# Altium schematic symbol library ESP32-S3-WROOM-1-N16R8.SchLib: 28 symbols
Pins are listed as number, name and electrical type; pins without a type are passive.

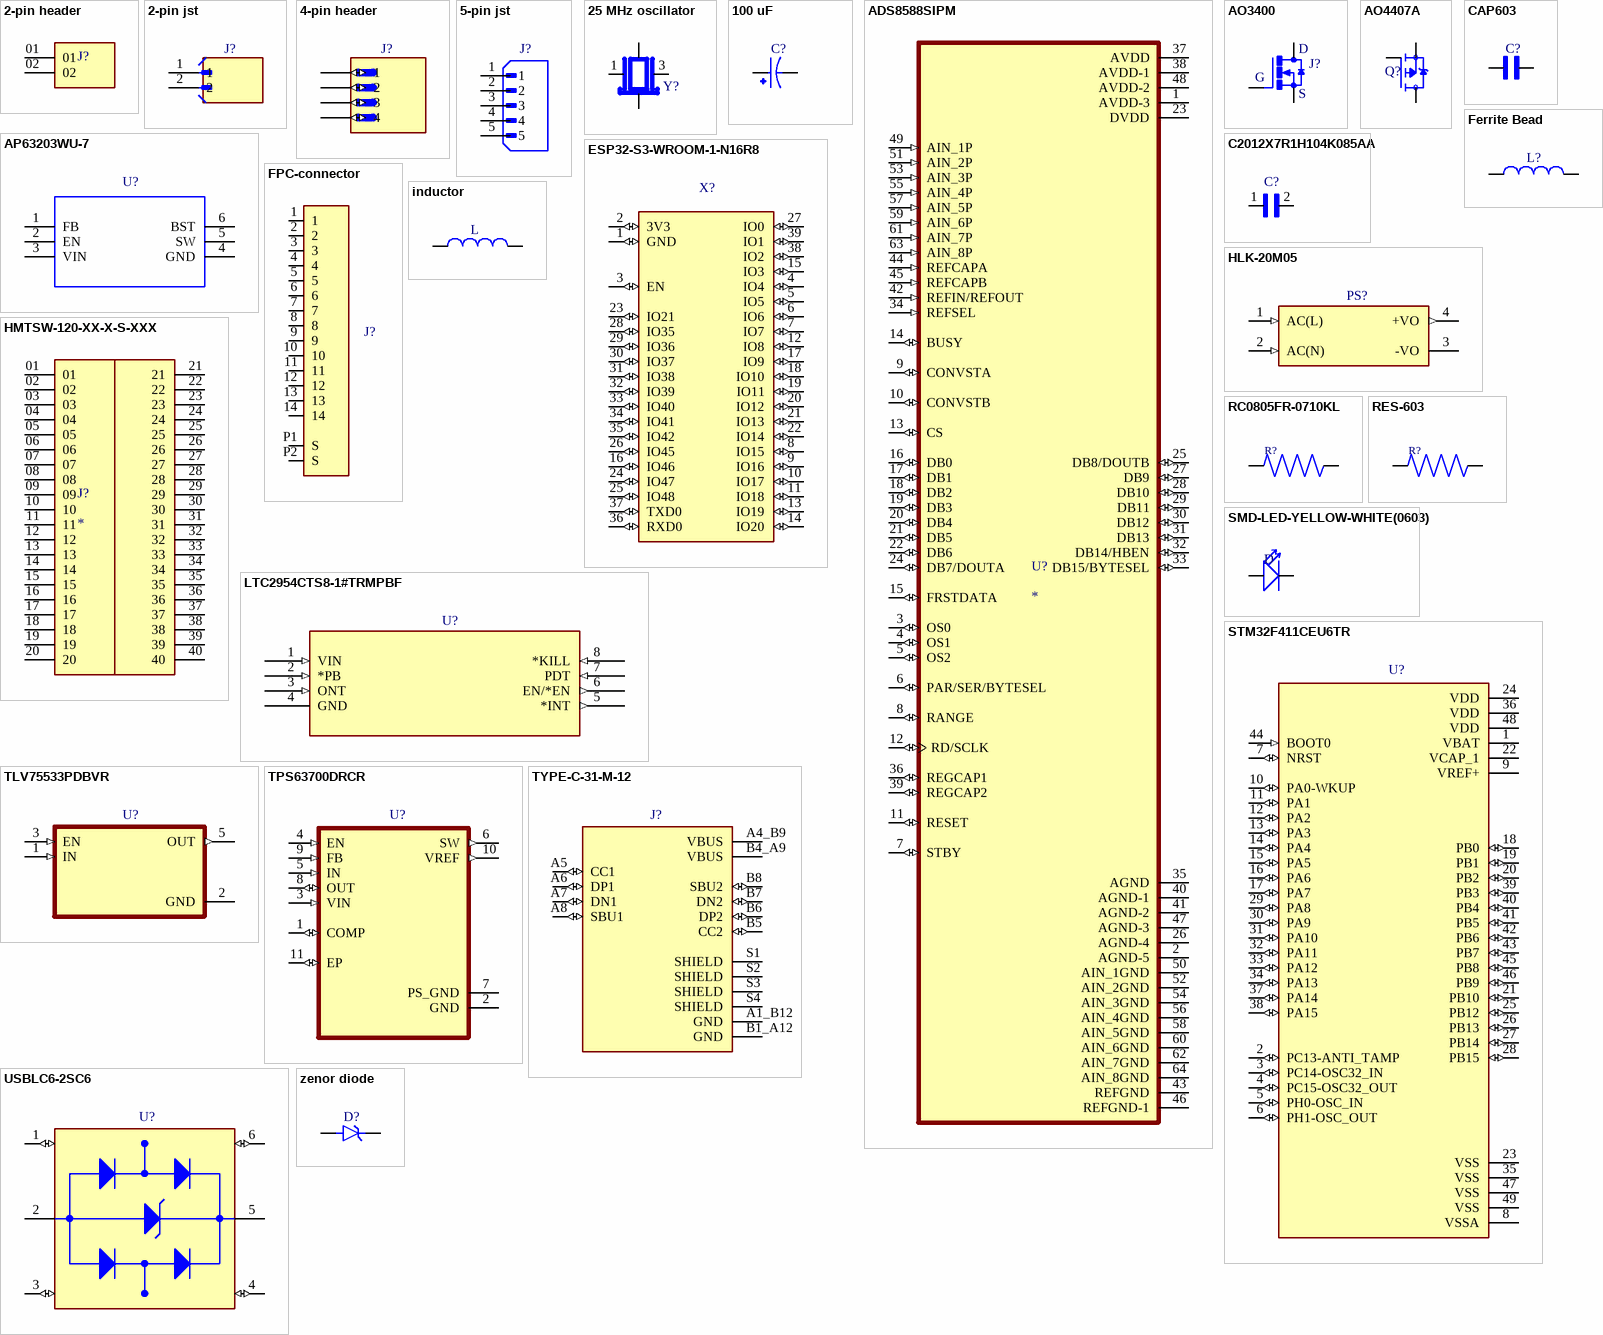
[diagram p0: symbols 2-pin header to zenor diode]

## 2-pin header
designator J?  (value not drawn)
Variable Height PCB Header Strips, 0.100 pitch; MF: SAMTEC; MP: MTSW-102-11-T-S-500; SnapEDA_Link: https://www.snapeda.com/parts/MTSW-102-11-T-S-500/Samtec/view-part/?ref=snap; Package: None; Value: *; Check_prices: https://www.snapeda.com/parts/MTSW-102-11-T-S-500/Samtec/view-part/?ref=eda
footprint 2-pin header
pins: 01, 02

## 2-pin jst
designator J?  (value not drawn)
Connector Header Through Hole 2 position 0.079 (2.00mm); MF: JST Sales America Inc.; MP: B2B-PH-K-S; SnapEDA_Link: https://www.snapeda.com/parts/B2B-PH-K-S/JST/view-part/?ref=snap; Package: None; Value: *; Check_prices: https://www.snapeda.com/parts/B2B-PH-K-S/JST/view-part/?ref=eda
footprint 2-pin jst
pins: 1, 2

## 4-pin header
designator J?  (value not drawn)
BergStikÂ®, Board to Board connector, Unshrouded Header, Through Hole, Single Row, 4 Positions, 2.54 mm Pitch, Vertical, 5.84 mm (0.23 in.) Mating, 2.41 mm (0.095 in.) Tail; MF: FCI; MP: 68000-104HLF; SnapEDA_Link: https://www.snapeda.com/parts/68000-104HLF/Amphenol+FCI/view-part/?ref=snap; Package: None; Value: *; Check_prices: https://www.snapeda.com/parts/68000-104HLF/Amphenol+FCI/view-part/?ref=eda
footprint 4-pin header
pins: 1 (io), 2 (io), 3 (io), 4 (io)

## 5-pin jst
designator J?  (value not drawn)
Connector Header Through Hole 5 position 0.098 (2.50mm); MF: JST Sales America Inc.; MP: B5B-XH-A(LF)(SN); SnapEDA_Link: https://www.snapeda.com/parts/B5B-XH-A(LF)(SN)/JST+Sales+America+Inc./view-part/?ref=snap; Package: None; Value: *; Check_prices: https://www.snapeda.com/parts/B5B-XH-A(LF)(SN)/JST+Sales+America+Inc./view-part/?ref=eda
footprint 5-pin jst
pins: 1, 2, 3, 4, 5

## 25 MHz oscillator
designator Y?  (value not drawn)
25 MHz 10ppm Crystal 18pF 30 Ohms 4-SMD, No Lead (3.20mm x 2.50mm); MF: Raltron Electronics; MP: RH100-25.000-18-F-1015-TR-NS2; SnapEDA_Link: https://www.snapeda.com/parts/RH100-25.000-18-F-1015-TR-NS2/Raltron+Electronics/view-part/?ref=snap; Package: None; Value: *; Check_prices: https://www.snapeda.com/parts/RH100-25.000-18-F-1015-TR-NS2/Raltron+Electronics/view-part/?ref=eda
footprint 25 MHz oscillator
pins: 1, 2 GND (power), 3, 4 GND (power)

## 100 uF
designator C?  (value not drawn)
Capacitor, Polymer Aluminum, Radial, 12mOhm, 100 CAP, 16V, SVPG, Surface Mount | Panasonic Electronic Components 16SVPG100M; SnapEDA_Link: https://www.snapeda.com/parts/16SVPG100M/Panasonic/view-part/?ref=snap; Package: None; Value: *; MF: Panasonic; MP: 16SVPG100M; Check_prices: https://www.snapeda.com/parts/16SVPG100M/Panasonic/view-part/?ref=eda
footprint 100 uF
pins: 1, 2

## ADS8588SIPM
designator U?
16-Bit High-Speed 8-Channel Simultaneous-Sampling ADC With Bipolar Inputs on a Single Supply 64-LQFP -40 to 125; MF: Texas Instruments; MP: ADS8588SIPM; Value: *; SnapEDA_Link: https://www.snapeda.com/parts/ADS8588SIPM/Texas+Instruments/view-part/?ref=snap; Purchase-URL: https://pricing.snapeda.com/search/part/ADS8588SIPM/?ref=eda; Availability: In Stock; Price: None; Package: LQFP-64 Texas Instruments; Check_prices: https://www.snapeda.com/parts/ADS8588SIPM/Texas+Instruments/view-part/?ref=eda
footprint ADS8588SIPM
pins: 1 AVDD-3 (power), 2 AGND-5 (power), 3 OS0 (io), 4 OS1 (io), 5 OS2 (io), 6 PAR/SER/BYTESEL (io), 7 STBY (io), 8 RANGE (io), 9 CONVSTA (io), 10 CONVSTB (io), 11 RESET (io), 12 RD/SCLK (io), 13 CS (io), 14 BUSY (io), 15 FRSTDATA (io), 16 DB0 (io), 17 DB1 (io), 18 DB2 (io), 19 DB3 (io), 20 DB4 (io), 21 DB5 (io), 22 DB6 (io), 23 DVDD (power), 24 DB7/DOUTA (io), 25 DB8/DOUTB (io), 26 AGND-4 (power), 27 DB9 (io), 28 DB10 (io), 29 DB11 (io), 30 DB12 (io), 31 DB13 (io), 32 DB14/HBEN (io), 33 DB15/BYTESEL (io), 34 REFSEL (in), 35 AGND (power), 36 REGCAP1 (io), 37 AVDD (power), 38 AVDD-1 (power), 39 REGCAP2 (io), 40 AGND-1 (power), 41 AGND-2 (power), 42 REFIN/REFOUT (in), 43 REFGND (power), 44 REFCAPA (in), 45 REFCAPB (in), 46 REFGND-1 (power), 47 AGND-3 (power), 48 AVDD-2 (power), 49 AIN_1P (in), 50 AIN_1GND (power), 51 AIN_2P (in), 52 AIN_2GND (power), 53 AIN_3P (in), 54 AIN_3GND (power), 55 AIN_4P (in), 56 AIN_4GND (power), 57 AIN_5P (in), 58 AIN_5GND (power), 59 AIN_6P (in), 60 AIN_6GND (power), 61 AIN_7P (in), 62 AIN_7GND (power), 63 AIN_8P (in), 64 AIN_8GND (power)

## AO3400
designator J?  (value not drawn)
N-Channel 30 V 5.8A (Ta) 1.4W (Ta) Surface Mount SOT-23-3; MF: Alpha &; MP: AO3400; SnapEDA_Link: https://www.snapeda.com/parts/AO3400/Alpha/view-part/?ref=snap; Package: SOT-23-3 Alpha &amp; Omega Semiconductor; Check_prices: https://www.snapeda.com/parts/AO3400/Alpha/view-part/?ref=eda; Value: *
footprint AO3400
pins: 1 G, 2 S, 3 D

## AO4407A
designator Q?  (value not drawn)
P-Channel 30 V 12A (Ta) 3.1W (Ta) Surface Mount 8-SOIC; MF: Alpha &; MP: AO4407A; SnapEDA_Link: https://www.snapeda.com/parts/AO4407A/Alpha/view-part/?ref=snap; Package: SOIC-8 Alpha &amp; Omega Semiconductor; Value: *; Check_prices: https://www.snapeda.com/parts/AO4407A/Alpha/view-part/?ref=eda
footprint AO4407A
pins: 1 S, 2 S, 3 S, 4 G, 5 D, 6 D, 7 D, 8 D

## AP63203WU-7
designator U?  (value not drawn)
Buck Switching Regulator IC Positive Fixed 3.3V 1 Output 2A SOT-23-6 Thin, TSOT-23-6; MF: Diodes Zetex; MP: AP63203WU-7; SnapEDA_Link: https://www.snapeda.com/parts/AP63203WU-7/Diodes+Inc./view-part/?ref=snap; Package: SOT-23-6 Diodes Incorporated; Value: *; Check_prices: https://www.snapeda.com/parts/AP63203WU-7/Diodes+Inc./view-part/?ref=eda
footprint AP63203WU-7
pins: 1 FB, 2 EN, 3 VIN, 4 GND, 5 SW, 6 BST

## C2012X7R1H104K085AA
designator C?  (value not drawn)
0.1 ÂµF Â±10% 50V Ceramic Capacitor X7R 0805 (2012 Metric); MP: C2012X7R1H104K085AA; MF: TDK; Purchase-URL: https://pricing.snapeda.com/search/part/C2012X7R1H104K085AA/?ref=eda; Package: 2012 TDK; Value: *; SnapEDA_Link: https://www.snapeda.com/parts/C2012X7R1H104K085AA/TDK/view-part/?ref=snap; Digi-Key_Part_Number: 445-7534-1-ND; Check_prices: https://www.snapeda.com/parts/C2012X7R1H104K085AA/TDK/view-part/?ref=eda
footprint CAPC2012X100N
pins: 1, 2

## CAP603
designator C?  (value not drawn)
0.1 ÂµF Â±5% 10V Ceramic Capacitor X7R 0603 (1608 Metric); MF: Vishay; MP: VJ0603Y104JXQCW1BC; SnapEDA_Link: https://www.snapeda.com/parts/VJ0603Y104JXQCW1BC/Vishay/view-part/?ref=snap; Package: 0603-2 VISHAY; Value: *; Check_prices: https://www.snapeda.com/parts/VJ0603Y104JXQCW1BC/Vishay/view-part/?ref=eda
footprint CAP603
pins: 1, 2

## ESP32-S3-WROOM-1-N16R8
designator X?  (value not drawn)
Bluetooth, WiFi 802.11b/g/n, Bluetooth v5.0 Transceiver Module 2.4GHz PCB Trace Surface Mount; MF: Espressif Systems; MP: ESP32-S3-WROOM-1-N16R8; SnapEDA_Link: https://www.snapeda.com/parts/ESP32-S3-WROOM-1-N16R8/Espressif+Systems/view-part/?ref=snap; Package: NON STANDARD Espressif Systems; Value: *; Check_prices: https://www.snapeda.com/parts/ESP32-S3-WROOM-1-N16R8/Espressif+Systems/view-part/?ref=eda
footprint ESP32S3WROOM1N8R2
pins: 1 GND (io), 2 3V3 (io), 3 EN (io), 4 IO4 (io), 5 IO5 (io), 6 IO6 (io), 7 IO7 (io), 8 IO15 (io), 9 IO16 (io), 10 IO17 (io), 11 IO18 (io), 12 IO8 (io), 13 IO19 (io), 14 IO20 (io), 15 IO3 (io), 16 IO46 (io), 17 IO9 (io), 18 IO10 (io), 19 IO11 (io), 20 IO12 (io), 21 IO13 (io), 22 IO14 (io), 23 IO21 (io), 24 IO47 (io), 25 IO48 (io), 26 IO45 (io), 27 IO0 (io), 28 IO35 (io), 29 IO36 (io), 30 IO37 (io), 31 IO38 (io), 32 IO39 (io), 33 IO40 (io), 34 IO41 (io), 35 IO42 (io), 36 RXD0 (io), 37 TXD0 (io), 38 IO2 (io), 39 IO1 (io), 40 GND (io), 41 GND (io), 42 GND (io), 43 GND (io), 44 GND (io), 45 GND (io), 46 GND (io), 47 GND (io), 48 GND (io), 49 GND (io)

## Ferrite Bead
designator L?  (value not drawn)
Size 0603; Z @ 100 MHz = 1000 â„¦; Zmax = 1100 â„¦ @ 120 MHz; IR = 300 mA; RDC = 0.6 â„¦; MF: Wurth Electronics; MP: 742792664; SnapEDA_Link: https://www.snapeda.com/parts/742792664/Wurth+Electronics/view-part/?ref=snap; Package: 0603 Wurth Elektronik; Value: *; Check_prices: https://www.snapeda.com/parts/742792664/Wurth+Electronics/view-part/?ref=eda
footprint Ferrite Bead
pins: 1, 2

## FPC-connector
designator J?  (value not drawn)
14 Position FPC Connector Contacts, Top 0.020 (0.50mm) Surface Mount, Right Angle; MF: TE Connectivity; MP: 1-1734839-4; SnapEDA_Link: https://www.snapeda.com/parts/1-1734839-4/TE+Connectivity+AMP+Connectors/view-part/?ref=snap; Package: None; Value: *; EU_RoHS_Compliance: Compliant; Check_prices: https://www.snapeda.com/parts/1-1734839-4/TE+Connectivity+AMP+Connectors/view-part/?ref=eda
footprint FPC-connector
pins: 1, 2, 3, 4, 5, 6, 7, 8, 9, 10, 11, 12, 13, 14, P1 S, P2 S

## HLK-20M05
designator PS?  (value not drawn)
20W ultra-small series module power supply; MF: Hi-link; MP: HLK-20M05; Value: *; Package: Non-Standard Hi-link; Check_prices: https://www.snapeda.com/parts/HLK-20M05/Hi-link/view-part/?ref=eda; SnapEDA_Link: https://www.snapeda.com/parts/HLK-20M05/Hi-link/view-part/?ref=snap; Price: None; Availability: Not in stock
footprint HLK-20M05
pins: 1 AC(L) (in), 2 AC(N) (in), 3 -VO (power), 4 +VO (out)

## HMTSW-120-XX-X-S-XXX
designator J?
Connector Header Through Hole 20 position 0.100 (2.54mm); MF: Samtec; MP: HMTSW-120-08-G-S-250; SnapEDA_Link: https://www.snapeda.com/parts/HMTSW-120-08-G-S-250/Samtec/view-part/?ref=snap; Package: None; Value: *; Check_prices: https://www.snapeda.com/parts/HMTSW-120-08-G-S-250/Samtec/view-part/?ref=eda
footprint SAMTEC_HMTSW-120-XX-X-S-XXX
pins: 01, 02, 03, 04, 05, 06, 07, 08, 09, 10, 11, 12, 13, 14, 15, 16, 17, 18, 19, 20, 21, 22, 23, 24, 25, 26, 27, 28, 29, 30, 31, 32, 33, 34, 35, 36, 37, 38, 39, 40

## inductor
designator L  (value not drawn)
Inductor with Inductance: 4.7uH Tol. +/-20%, Package: 0603 _1608_; MF: Murata Electronics; MP: LQM18PN4R7MFRL; SnapEDA_Link: https://www.snapeda.com/parts/LQM18PN4R7MFRL/Murata%20Electronics%20North%20America/view-part/1499515/?ref=snap; Availability: Unavailable; Value: *; Price: None; Package: 1608 Murata
footprint inductor
pins: 1, 2

## LTC2954CTS8-1#TRMPBF
designator U?  (value not drawn)
MF: {'manufacturer': u'Analog Devices Inc.'}; MP: LTC2954CTS8-1#TRMPBF; Package: None; Price: None; Value: *; Availability: Unavailable
footprint LTC2954CTS8-1#TRMPBF
pins: 1 VIN (in), 2 *PB (in), 3 ONT (in), 4 GND (power), 5 *INT (out), 6 EN/*EN (out), 7 PDT (in), 8 *KILL (in)

## RC0805FR-0710KL
designator R?  (value not drawn)
10 kOhms Â±1% 0.125W, 1/8W Chip Resistor 0805 (2012 Metric) Moisture Resistant Thick Film; MF: Yageo; MP: RC0805FR-0710KL; Value: *; SnapEDA_Link: https://www.snapeda.com/parts/RC0805FR-0710KL/Yageo/view-part/?ref=snap; Purchase-URL: https://pricing.snapeda.com/search/part/RC0805FR-0710KL/?ref=eda; Availability: In Stock; Price: None; Package: 2012 Rohm Semiconductor; Check_prices: https://www.snapeda.com/parts/RC0805FR-0710KL/Yageo/view-part/?ref=eda
footprint RESC2012X60N
pins: 1, 2

## RES-603
designator R?  (value not drawn)
MF: Yageo; MP: RC0805FR-0710KL; Value: *; SnapEDA_Link: https://www.snapeda.com/parts/RC0805FR-0710KL/Yageo/view-part/?ref=snap; Purchase-URL: https://pricing.snapeda.com/search/part/RC0805FR-0710KL/?ref=eda; Availability: In Stock; Price: None; Package: 2012 Rohm Semiconductor; Check_prices: https://www.snapeda.com/parts/RC0805FR-0710KL/Yageo/view-part/?ref=eda
footprint CAP603
pins: 1, 2

## SMD-LED-YELLOW-WHITE(0603)
designator D  (value not drawn)
SMD LED Yellow-White; MF: Chengguangxing; MP: ADL-0603W; SnapEDA_Link: https://www.snapeda.com/parts/ADL-0603W/Chengguangxing/view-part/106378/?ref=snap; Availability: Unavailable; Value: *; Price: None; Package: None
footprint LED-0603
pins: NEG, POS

## STM32F411CEU6TR
designator U?  (value not drawn)
ARMÂ® CortexÂ®-M4 series Microcontroller IC 32-Bit Single-Core 100MHz 512KB (512K x 8) FLASH 48-UFQFPN (7x7); MP: STM32F411CEU6TR; MF: STMicroelectronics; Value: *; Package: UFQFN-48 STMicroelectronics; Availability: In Stock; Price: None; SnapEDA_Link: https://www.snapeda.com/parts/STM32F411CEU6TR/STMicroelectronics/view-part/?ref=snap; Check_prices: https://www.snapeda.com/parts/STM32F411CEU6TR/STMicroelectronics/view-part/?ref=eda; Purchase-URL: https://pricing.snapeda.com/search/part/STM32F411CEU6TR/?ref=eda
footprint STM32F411CEU6TR
pins: 1 VBAT, 2 PC13-ANTI_TAMP (io), 3 PC14-OSC32_IN (io), 4 PC15-OSC32_OUT (io), 5 PH0-OSC_IN (io), 6 PH1-OSC_OUT (io), 7 NRST (io), 8 VSSA, 9 VREF+ (power), 10 PA0-WKUP (io), 11 PA1 (io), 12 PA2 (io), 13 PA3 (io), 14 PA4 (io), 15 PA5 (io), 16 PA6 (io), 17 PA7 (io), 18 PB0 (io), 19 PB1 (io), 20 PB2 (io), 21 PB10 (io), 22 VCAP_1 (power), 23 VSS, 24 VDD, 25 PB12 (io), 26 PB13 (io), 27 PB14 (io), 28 PB15 (io), 29 PA8 (io), 30 PA9 (io), 31 PA10 (io), 32 PA11 (io), 33 PA12 (io), 34 PA13 (io), 35 VSS, 36 VDD, 37 PA14 (io), 38 PA15 (io), 39 PB3 (io), 40 PB4 (io), 41 PB5 (io), 42 PB6 (io), 43 PB7 (io), 44 BOOT0 (in), 45 PB8 (io), 46 PB9 (io), 47 VSS, 48 VDD, 49 VSS

## TLV75533PDBVR
designator U?  (value not drawn)
500-mA High-PSRR Low-IQ-Tief-Dropout-Spannungsregler mitablem; MF: Texas Instruments; MP: TLV75533PDBVR; SnapEDA_Link: https://www.snapeda.com/parts/TLV75533PDBVR/Texas+Instruments/view-part/?ref=snap; Package: SOT-23-5 Texas Instruments; Value: *; Check_prices: https://www.snapeda.com/parts/TLV75533PDBVR/Texas+Instruments/view-part/?ref=eda
footprint TLV75533PDBVR
pins: 1 IN (in), 2 GND (power), 3 EN (in), 5 OUT (out)

## TPS63700DRCR
designator U?  (value not drawn)
Adjustable, -15V Output Inverting DC/DC Converter in 3x3 QFN; MF: Texas Instruments; MP: TPS63700DRCR; SnapEDA_Link: https://www.snapeda.com/parts/TPS63700DRCR/Texas+Instruments/view-part/?ref=snap; Package: VSON-10 Texas Instruments; Value: *; Check_prices: https://www.snapeda.com/parts/TPS63700DRCR/Texas+Instruments/view-part/?ref=eda
footprint TPS63700DRCR
pins: 1 COMP (io), 2 GND (power), 3 VIN (in), 4 EN (in), 5 IN (in), 6 SW (out), 7 PS_GND (power), 8 OUT (io), 9 FB (in), 10 VREF (out), 11 EP (io)

## TYPE-C-31-M-12
designator J?  (value not drawn)
USB Connectors 24 Receptacle 1 8.94*7.3mm RoHS; MF: HRO Electronics Co., Ltd.; MP: TYPE-C-31-M-12; SnapEDA_Link: https://www.snapeda.com/parts/TYPE-C-31-M-12/HRO+Electronics+Co.%252C+Ltd./view-part/?ref=snap; Package: Package; Value: *; Check_prices: https://www.snapeda.com/parts/TYPE-C-31-M-12/HRO+Electronics+Co.%252C+Ltd./view-part/?ref=eda
footprint TYPE-C-31-M-12
pins: A1_B12 GND, A4_B9 VBUS (power), A5 CC1 (io), A6 DP1 (io), A7 DN1 (io), A8 SBU1 (io), B1_A12 GND, B4_A9 VBUS (power), B5 CC2 (io), B6 DP2 (io), B7 DN2 (io), B8 SBU2 (io), S1 SHIELD, S2 SHIELD, S3 SHIELD, S4 SHIELD

## USBLC6-2SC6
designator U?  (value not drawn)
17V Clamp 5A (8/20Âµs) Ipp Tvs Diode Surface Mount SOT-23-6; MF: STMicroelectronics; MP: USBLC6-2SC6; Value: *; SnapEDA_Link: https://www.snapeda.com/parts/USBLC6-2SC6/STMicroelectronics/view-part/?ref=snap; Check_prices: https://www.snapeda.com/parts/USBLC6-2SC6/STMicroelectronics/view-part/?ref=eda; Purchase-URL: https://pricing.snapeda.com/search/part/USBLC6-2SC6/?ref=eda; Price: None; Availability: In Stock; Package: SOT-23-6 STMicroelectronics
footprint USBLC6-2SC6
pins: 1 I/O1_IN (io), 2 GND (power), 3 I/O2_IN (io), 4 I/O2_OUT (io), 5 VBUS (power), 6 I/O1_OUT (io)

## zenor diode
designator D?  (value not drawn)
DO-214AC (SMA), 1250mW, 5%, Zener Diode; MF: Taiwan Semiconductor; MP: 1SMA4746H; SnapEDA_Link: https://www.snapeda.com/parts/1SMA4746H/taiwan/view-part/?ref=snap; Package: SMA-2 Taiwan Semiconductor; Value: *; Check_prices: https://www.snapeda.com/parts/1SMA4746H/taiwan/view-part/?ref=eda
footprint zenor diode
pins: A, C K